# EAGLE library part CY62167DV30-TSOP48 (library scott_eagle)
16-Mbit (1M x 16) Static RAM, CY62167DV30, 48-TSOP package; Cypress Semiconductor Corp.
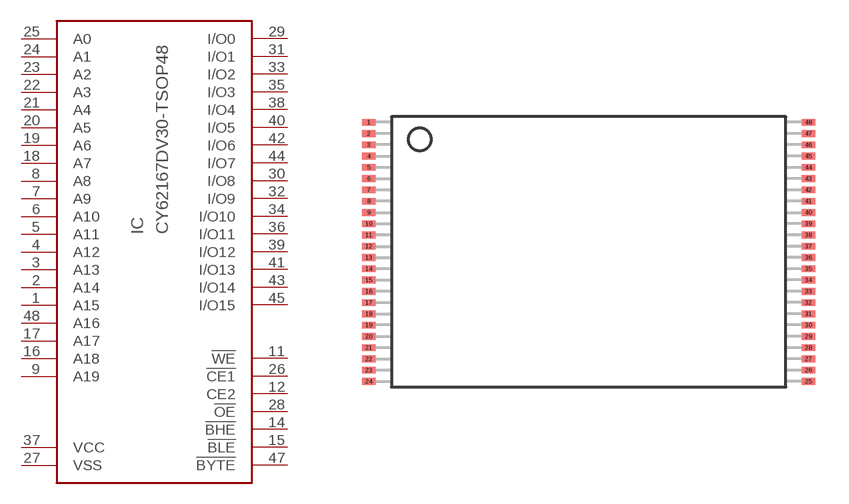
[diagram p0: symbol with the pads of CY62167DV30-TSOP48; footprint CY62167DV30-TSOP48]

Designator prefix IC

## CY62167DV30-TSOP48  [CY62167DV30-TSOP48]
1  A15
2  A14
3  A13
4  A12
5  A11
6  A10
7  A9
8  A8
9  A19
11  !WE
12  CE2
14  !BHE
15  !BLE
16  A18
17  A17
18  A7
19  A6
20  A5
21  A4
22  A3
23  A2
24  A1
25  A0
26  !CE1
27  VSS
28  !OE
29  I/O0
30  I/O8
31  I/O1
32  I/O9
33  I/O2
34  I/O10
35  I/O3
36  I/O11
37  VCC
38  I/O4
39  I/O12
40  I/O5
41  I/O13
42  I/O6
43  I/O14
44  I/O7
45  I/O15
47  !BYTE
48  A16

## Footprint CY62167DV30-TSOP48 (pad centres in mm)
smd 0.61 x 0.305: 1 -10.16,5.715; 2 -10.16,5.207; 3 -10.16,4.699; 4 -10.16,4.191; 5 -10.16,3.683; 6 -10.16,3.175; 7 -10.16,2.667; 8 -10.16,2.159; 9 -10.16,1.651; 10 -10.16,1.143; 11 -10.16,0.635; 12 -10.16,0.127; 13 -10.16,-0.381; 14 -10.16,-0.889; 15 -10.16,-1.397; 16 -10.16,-1.905; 17 -10.16,-2.413; 18 -10.16,-2.921; 19 -10.16,-3.429; 20 -10.16,-3.937; 21 -10.16,-4.445; 22 -10.16,-4.953; 23 -10.16,-5.461; 24 -10.16,-5.969; 25 9.652,-5.969; 26 9.652,-5.461; 27 9.652,-4.953; 28 9.652,-4.445; 29 9.652,-3.937; 30 9.652,-3.429; 31 9.652,-2.921; 32 9.652,-2.413; 33 9.652,-1.905; 34 9.652,-1.397; 35 9.652,-0.889; 36 9.652,-0.381; 37 9.652,0.127; 38 9.652,0.635; 39 9.652,1.143; 40 9.652,1.651; 41 9.652,2.159; 42 9.652,2.667; 43 9.652,3.175; 44 9.652,3.683; 45 9.652,4.191; 46 9.652,4.699; 47 9.652,5.207; 48 9.652,5.715